# Altium schematic symbol library SCH - POWER - SWITCHMODE - TI TPS56121DQP.SchLib: 1 symbol
Pins are listed as number, name and electrical type; pins without a type are passive.

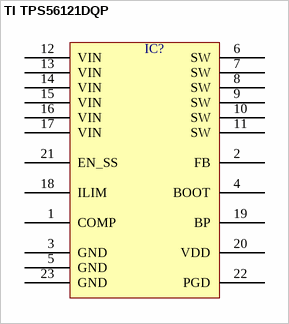
[diagram p0: symbol TI TPS56121DQP]

## TI TPS56121DQP
designator IC?  (value not drawn)
pins: 1 COMP, 2 FB, 3 GND, 4 BOOT, 5 GND, 6 SW, 7 SW, 8 SW, 9 SW, 10 SW, 11 SW, 12 VIN, 13 VIN, 14 VIN, 15 VIN, 16 VIN, 17 VIN, 18 ILIM, 19 BP, 20 VDD, 21 EN_SS, 22 PGD, 23 GND